# EAGLE library part BS616LV4017 (library memory-bsi)
CMOS SRAM 256K X 16 bit, Very Low Power
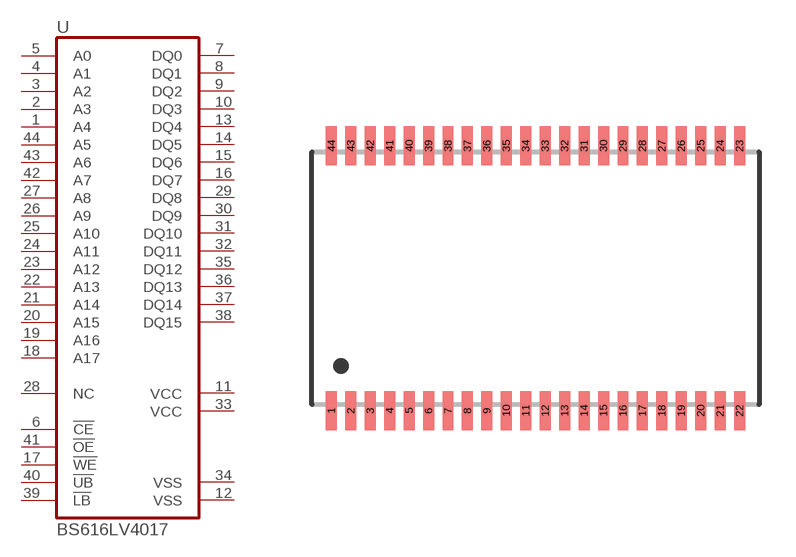
[diagram p1: symbol with the pads of TSOP-II-44; footprint TSOP-II-44]

Designator prefix U

## BS616LV4017E  [TSOP-II-44]
1  A4  in
2  A3  in
3  A2  in
4  A1  in
5  A0  in
6  !CE!  in
7  DQ0
8  DQ1
9  DQ2
10  DQ3
11  VCC  pwr
12  VSS  pwr
13  DQ4
14  DQ5
15  DQ6
16  DQ7
17  !WE!  in
18  A17  in
19  A16  in
20  A15  in
21  A14  in
22  A13  in
23  A12  in
24  A11  in
25  A10  in
26  A9  in
27  A8  in
28  NC  nc
29  DQ8
30  DQ9
31  DQ10
32  DQ11
33  VCC  pwr
34  VSS  pwr
35  DQ12
36  DQ13
37  DQ14
38  DQ15
39  !LB!  in
40  !UB!  in
41  !OE!  in
42  A7  in
43  A6  in
44  A5  in

## Footprint TSOP-II-44 (pad centres in mm)
TSOP44-2 TSOP Type II package
smd 0.45 x 1.6: 1 -8.4,-5.05; 2 -7.6,-5.05; 3 -6.8,-5.05; 4 -6,-5.05; 5 -5.2,-5.05; 6 -4.4,-5.05; 7 -3.6,-5.05; 8 -2.8,-5.05; 9 -2,-5.05; 10 -1.2,-5.05; 11 -0.4,-5.05; 12 0.4,-5.05; 13 1.2,-5.05; 14 2,-5.05; 15 2.8,-5.05; 16 3.6,-5.05; 17 4.4,-5.05; 18 5.2,-5.05; 19 6,-5.05; 20 6.8,-5.05; 21 7.6,-5.05; 22 8.4,-5.05; 23 8.4,5.85; 24 7.6,5.85; 25 6.8,5.85; 26 6,5.85; 27 5.2,5.85; 28 4.4,5.85; 29 3.6,5.85; 30 2.8,5.85; 31 2,5.85; 32 1.2,5.85; 33 0.4,5.85; 34 -0.4,5.85; 35 -1.2,5.85; 36 -2,5.85; 37 -2.8,5.85; 38 -3.6,5.85; 39 -4.4,5.85; 40 -5.2,5.85; 41 -6,5.85; 42 -6.8,5.85; 43 -7.6,5.85; 44 -8.4,5.85